# Altium footprint library WE-LF.PcbLib: 8 footprints
Each footprint in its own frame and in the unit in brackets; x right, y up, seen from the top. Pads: shape width x height; smd on the part's side, far side on the other; paste and mask are expansions set on the pad; w line width, h text height; cw(c..) or ccw(c..) is an arc to the next point about the centre after c.
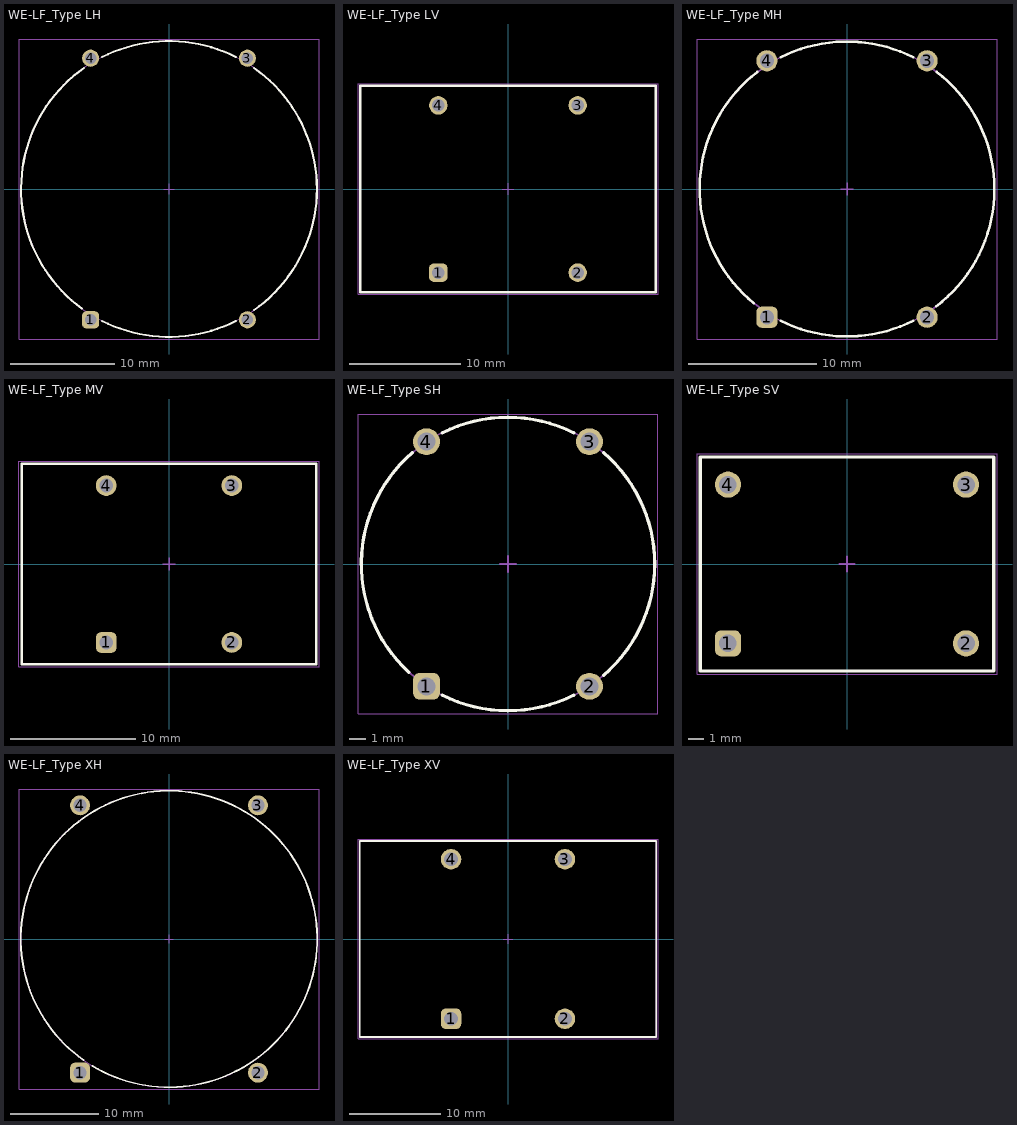
[diagram p0: the footprints below, top view; thin cyan lines are the x and y axes]

## WE-LF_Type LH [mm] "Common Mode Power Line Choke, THT, 4-leads, body diameter 28.5mm"
height 17
pads (4):
  rrect50% 1.65x1.65 hole 1.1: 1(-7.55,-12.6)
  round 1.65 hole 1.1: 2(7.55,-12.6) 3(7.55,12.6) 4(-7.55,12.6)
Top Overlay:
  lines w0.2: -8.396,-11.514 cw(c0,0) -8.188,11.662 ; -6.453,-12.705 ccw(c0,0) 6.433,-12.715 ; -6.453,12.705 cw(c0,0) 6.433,12.715 ; 8.172,-11.674 ccw(c0,0) 8.188,11.662
Top Assembly:
  circle w0.1: c0,0 r14.25
Top Designator:
  text ".Designator" at -3.647,-0.357 h1
Top 3D Body:
  circle w0.1: c0,0 r14.25
Top Courtyard:
  lines w0.05: -14.45,-14.45 14.45,-14.45 14.45,14.45 -14.45,14.45 -14.45,-14.45
Top Component Center:
  lines w0.1: -0.5,0 0.5,0 ; 0,-0.5 0,0.5
3D body "7446823006.stp": height 17.05, standoff -2.95, extent -14.25,-14.25 14.25,14.25

## WE-LF_Type LV [mm] "Common Mode Power Line Choke, THT, 4-leads, body 26.5x18.48mm"
height 30.5
pads (4):
  rrect50% 1.65x1.65 hole 1.1: 1(-6.25,-7.5)
  round 1.65 hole 1.1: 2(6.25,-7.5) 3(6.25,7.5) 4(-6.25,7.5)
Top Overlay:
  lines w0.2: -13.25,-9.25 -13.25,9.25 13.25,9.25 13.25,-9.25 -13.25,-9.25
Top Assembly:
  lines w0.1: -13.25,-9.25 13.25,-9.25 13.25,9.25 -13.25,9.25 -13.25,-9.25
Top Designator:
  text ".Designator" at -3.647,-0.357 h1
Top 3D Body:
  lines w0.1: -13.25,-9.25 13.25,-9.25 13.25,9.25 -13.25,9.25 -13.25,-9.25
Top Courtyard:
  lines w0.05: -13.45,-9.44 13.45,-9.44 13.45,9.44 -13.45,9.44 -13.45,-9.44
Top Component Center:
  lines w0.1: -0.5,0 0.5,0 ; 0,-0.5 0,0.5
3D body "7446323003.stp": height 30.6, standoff -2.9, extent -13.25,-9.25 13.25,9.25

## WE-LF_Type MH [mm] "Common Mode Power Line Choke, THT, 4-leads, body diameter 23mm"
height 14.5
pads (4):
  rrect50% 1.65x1.65 hole 1.1: 1(-6.25,-10)
  round 1.65 hole 1.1: 2(6.25,-10) 3(6.25,10) 4(-6.25,10)
Top Overlay:
  lines w0.2: -7.258,-8.921 cw(c0,0) -6.988,9.134 ; -5.163,-10.276 ccw(c0,0) 5.183,-10.266 ; -5.163,10.276 cw(c0,0) 5.183,10.266 ; 6.956,-9.158 ccw(c0,0) 6.988,9.134
Top Assembly:
  circle w0.1: c0,0 r11.5
Top Designator:
  text ".Designator" at -3.647,-0.357 h1
Top 3D Body:
  circle w0.1: c0,0 r11.5
Top Courtyard:
  lines w0.05: -11.7,-11.7 11.7,-11.7 11.7,11.7 -11.7,11.7 -11.7,-11.7
Top Component Center:
  lines w0.1: -0.5,0 0.5,0 ; 0,-0.5 0,0.5
3D body "7446722007.stp": height 14.6, standoff -2.9, extent -11.497,-11.5 11.497,11.5

## WE-LF_Type MV [mm] "Common Mode Power Line Choke, THT, 4-leads, body 23.5x16mm"
height 25.5
pads (4):
  rrect50% 1.65x1.65 hole 1.1: 1(-5,-6.25)
  round 1.65 hole 1.1: 2(5,-6.25) 3(5,6.25) 4(-5,6.25)
Top Overlay:
  lines w0.2: -11.75,-8 11.75,-8 11.75,8 -11.75,8 -11.75,-8
Top Assembly:
  lines w0.1: -11.75,-8 -11.75,8 11.75,8 11.75,-8 -11.75,-8
Top Designator:
  text ".Designator" at -3.647,-0.357 h1
Top 3D Body:
  lines w0.1: -11.75,-8 -11.75,8 11.75,8 11.75,-8 -11.75,-8
Top Courtyard:
  lines w0.05: -11.95,-8.2 11.95,-8.2 11.95,8.2 -11.95,8.2 -11.95,-8.2
Top Component Center:
  lines w0.1: -0.5,0 0.5,0 ; 0,-0.5 0,0.5
3D body "7446223001.stp": height 25.55, standoff -2.95, extent -11.75,-8 11.75,8

## WE-LF_Type SH [mm] "Common Mode Power Line Choke, THT, 4-leads, body diameter 18mm"
height 13
pads (4):
  rrect50% 1.65x1.65 hole 1.1: 1(-5,-7.5)
  round 1.65 hole 1.1: 2(5,-7.5) 3(5,7.5) 4(-5,7.5)
Top Overlay:
  lines w0.2: -6.082,-6.634 cw(c0,0) -5.87,6.823 ; -4.045,-8.04 ccw(c0,0) 4.025,-8.05 ; -4.045,8.04 cw(c0,0) 4.025,8.05 ; 5.87,6.823 cw(c0,0) 5.874,-6.819
Top Assembly:
  circle w0.1: c0,0 r9
Top Designator:
  text ".Designator" at -3.647,-0.357 h1
Top 3D Body:
  circle w0.1: c0,0 r9
Top Courtyard:
  lines w0.05: -9.2,-9.2 9.2,-9.2 9.2,9.2 -9.2,9.2 -9.2,-9.2
Top Component Center:
  lines w0.1: -0.5,0 0.5,0 ; 0,-0.5 0,0.5
3D body "744662xxxx_SH.stp": height 13.1, standoff -2.9, extent -9,-9 9,9

## WE-LF_Type SV [mm] "Common Mode Power Line Choke, THT, 4-leads, body 18.5x13.5mm"
height 20.5
pads (4):
  rrect50% 1.65x1.65 hole 1.1: 1(-7.5,-5)
  round 1.65 hole 1.1: 2(7.5,-5) 3(7.5,5) 4(-7.5,5)
Top Overlay:
  lines w0.2: -9.25,-6.75 -9.25,6.75 9.25,6.75 9.25,-6.75 -9.25,-6.75
Top Assembly:
  lines w0.1: -9.25,-6.75 9.25,-6.75 9.25,6.75 -9.25,6.75 -9.25,-6.75
Top Designator:
  text ".Designator" at -3.647,-0.357 h1
Top 3D Body:
  lines w0.1: -9.25,-6.75 9.25,-6.75 9.25,6.75 -9.25,6.75 -9.25,-6.75
Top Courtyard:
  lines w0.05: -9.45,-6.95 -9.45,6.95 9.45,6.95 9.45,-6.95 -9.45,-6.95
Top Component Center:
  lines w0.1: -0.5,0 0.5,0 ; 0,-0.5 0,0.5
3D body "7446120039.stp": height 20.55, standoff -2.95, extent -9.25,-6.75 9.25,6.75

## WE-LF_Type XH [mm] "Common Mode Power Line Choke, THT, 4-leads, body diamter 33.5mm"
height 20
pads (4):
  rrect50% 2.25x2.25 hole 1.5: 1(-10.05,-15.1)
  round 2.25 hole 1.5: 2(10.05,-15.1) 3(10.05,15.1) 4(-10.05,15.1)
Top Overlay:
  lines w0.2: -9.646,-13.694 cw(c0,0) -8.647,-14.345
Top Assembly:
  circle w0.1: c0,0 r16.75
Top Designator:
  text ".Designator" at -3.647,-0.357 h1
Top 3D Body:
  circle w0.1: c0,0 r16.75
Top Courtyard:
  lines w0.05: -16.95,-16.95 16.95,-16.95 16.95,16.95 -16.95,16.95 -16.95,-16.95
Top Component Center:
  lines w0.1: -0.5,0 0.5,0 ; 0,-0.5 0,0.5
3D body "7446923010.stp": height 20.1, standoff -3.4, extent -16.75,-16.75 16.75,16.75

## WE-LF_Type XV [mm] "Common Mode Power Line Choke, THT, 4-leads, body 32.5x21.5mm"
height 35.5
pads (4):
  rrect50% 2.25x2.25 hole 1.5: 1(-6.25,-8.75)
  round 2.25 hole 1.5: 2(6.25,-8.75) 3(6.25,8.75) 4(-6.25,8.75)
Top Overlay:
  lines w0.2: -16.25,-10.75 16.25,-10.75 16.25,10.75 -16.25,10.75 -16.25,-10.75
Top Assembly:
  lines w0.1: -16.25,-10.75 -16.25,10.75 16.25,10.75 16.25,-10.75 -16.25,-10.75
Top Designator:
  text ".Designator" at -3.647,-0.357 h1
Top 3D Body:
  lines w0.1: -16.25,-10.75 -16.25,10.75 16.25,10.75 16.25,-10.75 -16.25,-10.75
Top Courtyard:
  lines w0.05: -16.45,-10.95 16.45,-10.95 16.45,10.95 -16.45,10.95 -16.45,-10.95
Top Component Center:
  lines w0.1: -0.5,0 0.5,0 ; 0,-0.5 0,0.5
3D body "7446424003.stp": height 35.55, standoff -4.95, extent -16.25,-10.75 16.25,10.75